# EAGLE library part 61001413321 (library Wurth_Elektronik_Electromechanic_Board_to_Board_Connectors_rev16a)
WR-PHD 2.54mm SMT Socket Header, 14 Pins =>Code : CON_BTB_SHD_2.54_1_SMT_61001413321 <http://katalog.we-online.de/media/images/eican/Con_BTB_SHD_2.54_1_SMT_6100xx11921_pf2.jpg> Details see: http://katalog.we-online.de/en/em/610_0xx_119_21 Created 2014-05-30, Karrer Zheng 2014 (C) Würth Elektronik
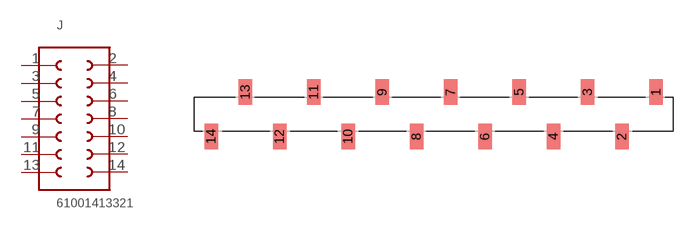
[diagram p208: symbol with the pads of 61001413321; footprint 61001413321]

Designator prefix J

## 61001413321  [61001413321]
1  1  pas
2  14  pas
3  2  pas
4  13  pas
5  3  pas
6  12  pas
7  4  pas
8  11  pas
9  5  pas
10  10  pas
11  6  pas
12  9  pas
13  7  pas
14  8  pas

## Footprint 61001413321 (pad centres in mm)
WR-PHD 2.54mm SMT Socket Header, 14 Pins
smd 1 x 1.91: 1 16.51,1.645; 2 13.97,-1.645; 3 11.43,1.645; 4 8.89,-1.645; 5 6.35,1.645; 6 3.81,-1.645; 7 1.27,1.645; 8 -1.27,-1.645; 9 -3.81,1.645; 10 -6.35,-1.645; 11 -8.89,1.645; 12 -11.43,-1.645; 13 -13.97,1.645; 14 -16.51,-1.645